# EAGLE library part TSW-103-07-T-D (library TSW10307TD)
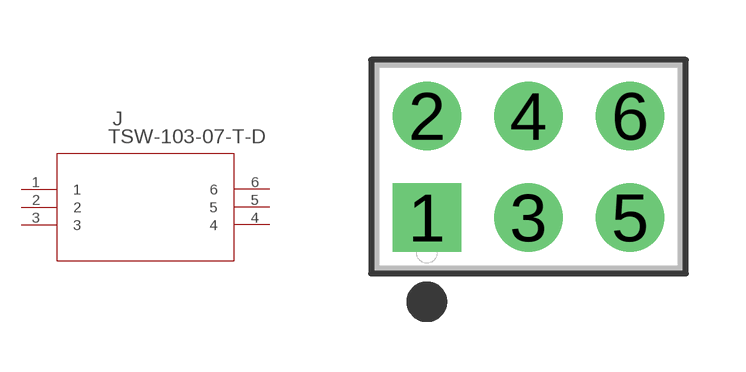
[diagram p0: symbol with the pads of TSW-103-07-G-D_SAI; footprint TSW-103-07-G-D_SAI]

Designator prefix J

## TSW-103-07-T-D (BUILT_BY: EMA_UL_Team; MANUFACTURER_PART_NUMBER: TSW-103-07-T-D; SOURCELIBRARY: Samtec_2016-10-07_9; VENDOR: Samtec Inc)  [TSW-103-07-G-D_SAI]
1  1  pas
2  2  pas
3  3  pas
4  4  pas
5  5  pas
6  6  pas

## Footprint TSW-103-07-G-D_SAI (pad centres in mm)
drill 1.143 pad 1.651 square: 1 0,0
drill 1.143 pad 1.651: 2 0,2.54; 3 2.54,0; 4 2.54,2.54; 5 5.08,0; 6 5.08,2.54